# Altium schematic symbol library SCH - OPAMP - INA185A1IDRLR.Schlib: 1 symbol
Pins are listed as number, name and electrical type; pins without a type are passive.

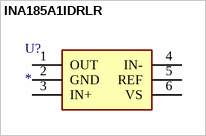
[diagram p0: symbol INA185A1IDRLR]

## INA185A1IDRLR
designator U?
Integrated Circuit
pins: 1 OUT, 2 GND, 3 IN+, 4 IN-, 5 REF, 6 VS